# Altium footprint library microUSB.PcbLib: 1 footprints
Each footprint in its own frame and in the unit in brackets; x right, y up, seen from the top. Pads: shape width x height; smd on the part's side, far side on the other; paste and mask are expansions set on the pad; w line width, h text height; cw(c..) or ccw(c..) is an arc to the next point about the centre after c.
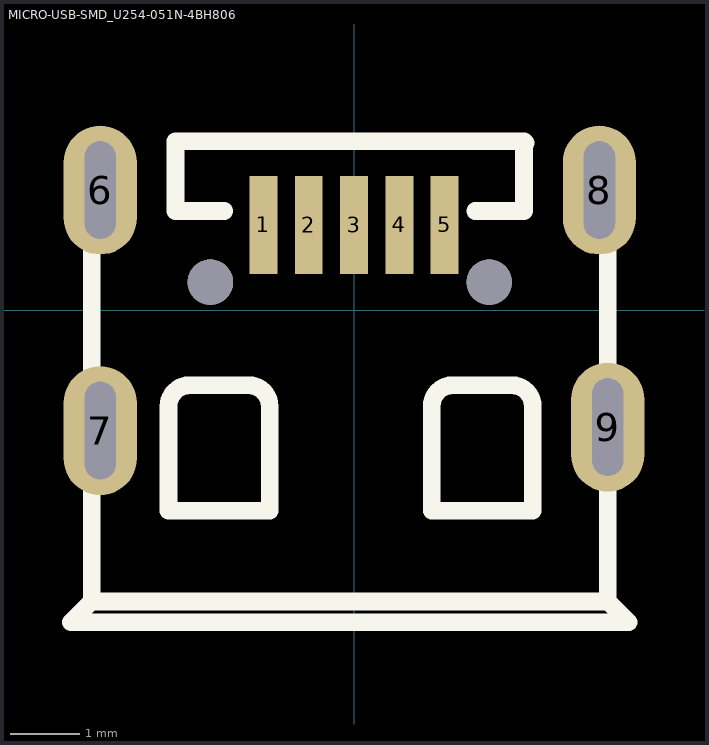
[diagram p0: the footprint, top view; thin cyan lines are the x and y axes]

## MICRO-USB-SMD_U254-051N-4BH806 [mm]
pads (11):
  rect 0.4x1.4 smd: 1(-1.3,1.225) 2(-0.65,1.225) 3(0,1.225) 4(0.65,1.225) 5(1.3,1.225)
  oval 1.05x1.849 hole 0.45 slot 1.4 at 90 deg: 6(-3.64,1.725) 7(-3.64,-1.725) 8(3.52,1.725) 9(3.64,-1.675)
  round 0.65 hole 0.65 unplated: ""(-2.06,0.405) ""(1.94,0.405)
Top Overlay:
  lines w0.254: -3.76,2.425 -3.76,-4.175 ; -1.86,1.425 -2.56,1.425 -2.56,2.425 2.44,2.425 ; -1.56,-1.075 -2.36,-1.075 ccw(c-2.36,-1.375) -2.66,-1.375 -2.66,-2.875 -1.26,-2.875 ; -1.51,-1.075 cw(c-1.51,-1.375) -1.21,-1.375 -1.21,-2.875 ; 1.74,1.425 2.44,1.425 2.44,2.425 ; 2.215,-1.075 1.415,-1.075 ccw(c1.415,-1.375) 1.115,-1.375 1.115,-2.875 2.515,-2.875 ; 2.265,-1.075 cw(c2.265,-1.375) 2.565,-1.375 2.565,-2.875 ; 2.465,2.4 cw(c2.465,2.425) 2.44,2.425 ; 3.64,2.425 3.64,-4.175 ; -3.76,-4.175 3.64,-4.175 ; -3.76,-4.175 -4.06,-4.475 3.94,-4.475 3.64,-4.175